# EAGLE library part BOTAO_CHAVE (library Batebit)
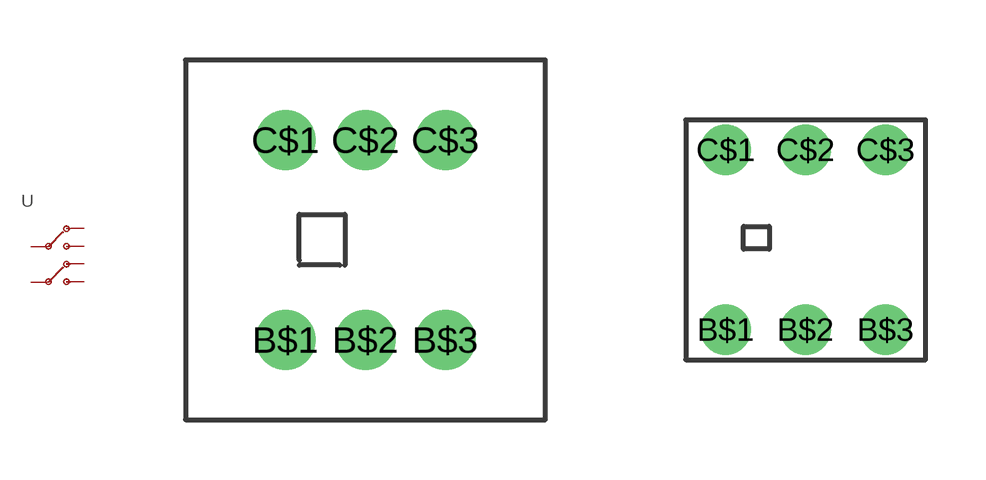
[diagram p10: symbol with the pads of CHAVE_BOTAO_7X7; footprints CHAVE_BOTAO_7X7, CHAVE_BOTAO_6X6]

Designator prefix -

## BOTAO_CHAVE7X7  [CHAVE_BOTAO_7X7]
B$1  B1  pas
B$2  B2  pas
B$3  B3  pas
C$1  C1  pas
C$2  C2  pas
C$3  C3  pas

## BOTAO_CHAVE6X6  [CHAVE_BOTAO_6X6]
Pads as for CHAVE_BOTAO_7X7

## Footprint CHAVE_BOTAO_7X7 (pad centres in mm)
drill 0.9 pad 1.5: B$1 -2,-2.5; B$2 0,-2.5; B$3 2,-2.5; C$1 -2,2.5; C$2 0,2.5; C$3 2,2.5

## Footprint CHAVE_BOTAO_6X6 (pad centres in mm)
drill 0.7 pad 1.27: B$1 -2,-2.25; B$2 0,-2.25; B$3 2,-2.25; C$1 -2,2.25; C$2 0,2.25; C$3 2,2.25